# EAGLE library part M12U_8-P_REC_MALE (library components)
MOLEX M12U 8-P REC MALE BACK SHIELDED
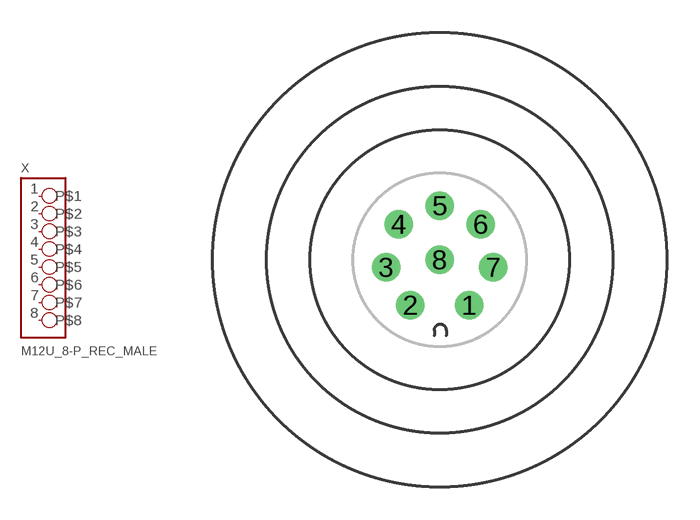
[diagram p0: symbol with the pads of M12-8POLE; footprint M12-8POLE]

Designator prefix X

## M12U_8-P_REC_MALE  [M12-8POLE]
1  P$1  pas
2  P$2  pas
3  P$3  pas
4  P$4  pas
5  P$5  pas
6  P$6  pas
7  P$7  pas
8  P$8  pas

## Footprint M12-8POLE (pad centres in mm)
M12U 8-P REC MALE BACK SHIELDED
drill 0.8: 1 1.362,-2.097; 2 -1.362,-2.097; 3 -2.476,-0.348; 4 -1.887,1.64; 5 0,2.5; 6 1.887,1.64; 7 2.476,-0.348; 8 0,0